# Altium schematic symbol library Active-Motor.SchLib: 1 symbol
Pins are listed as number, name and electrical type; pins without a type are passive.

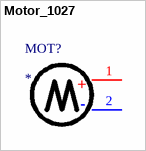
[diagram p0: symbol Motor_1027]

## Motor_1027
designator MOT?
扁平1027 振动马达; Manufacturer_Name: LEADER(立得); Manufacturer_Part_Number: LCM1027A2445F; LCSC: C2759984; Manufacturer_Name_1: *
footprint MOTOR_1207 (扁平1027 振动马达)
footprint MOTOR_1207-SMT (扁平1027 振动马达)
pins: 1, 2
text: +; -